# Altium footprint library gy-521.PCBLIB: 1 footprints
Each footprint in its own frame and in the unit in brackets; x right, y up, seen from the top. Pads: shape width x height; smd on the part's side, far side on the other; paste and mask are expansions set on the pad; w line width, h text height; cw(c..) or ccw(c..) is an arc to the next point about the centre after c.
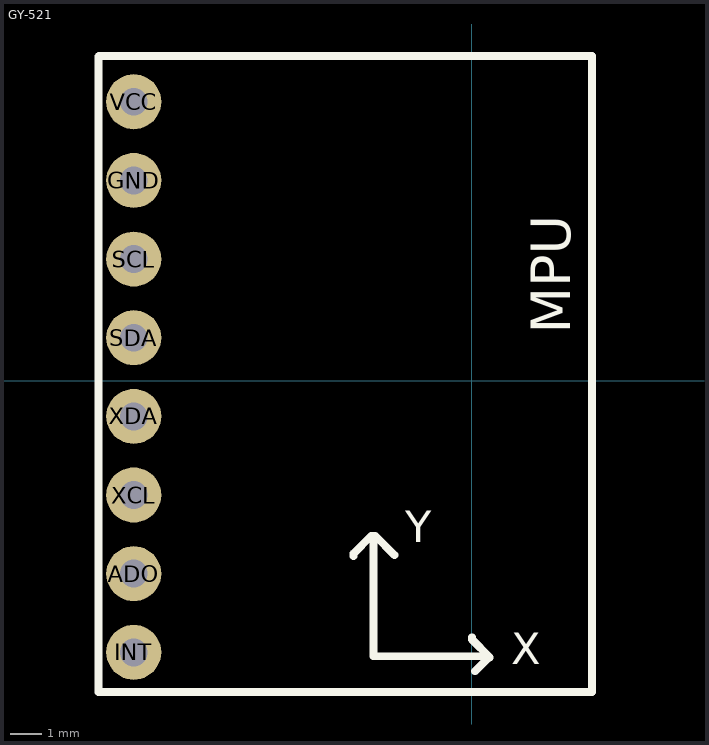
[diagram p0: the footprint, top view; thin cyan lines are the x and y axes]

## GY-521 [mil]
pads (8):
  round 70 / inner round 60 / far side round 70 hole 35.43: ADO(-430,-245) GND(-430,255) INT(-430,-345) SCL(-430,155) SDA(-430,55) VCC(-430,355) XCL(-430,-145) XDA(-430,-45)
Top Overlay:
  lines w10: -475,412.4 -475,-395.28 152.17,-395.28 152.56,-395.67 152.56,413.39 -474.02,413.39 ; -150.59,-222.44 -150.59,-219.49 -127.95,-196.85 -123.03,-196.85 -98.43,-221.46 ; -125,-205 -125,-340 -125,-350 15,-350 ; 0,-325.79 0,-328.74 22.64,-351.38 21.65,-351.38 3.94,-369.09
  text "MPU" at 125,60 h50
  text "Y" at -85,-205 h40
  text "X" at 50,-360 h40
3D body "MPU_6050.step": height 159.06, standoff 40.94, extent -467.51,-394.68 162.41,412.4